# Altium footprint library SummerWorkshop.PcbLib: 12 footprints
Each footprint in its own frame and in the unit in brackets; x right, y up, seen from the top. Pads: shape width x height; smd on the part's side, far side on the other; paste and mask are expansions set on the pad; w line width, h text height; cw(c..) or ccw(c..) is an arc to the next point about the centre after c.
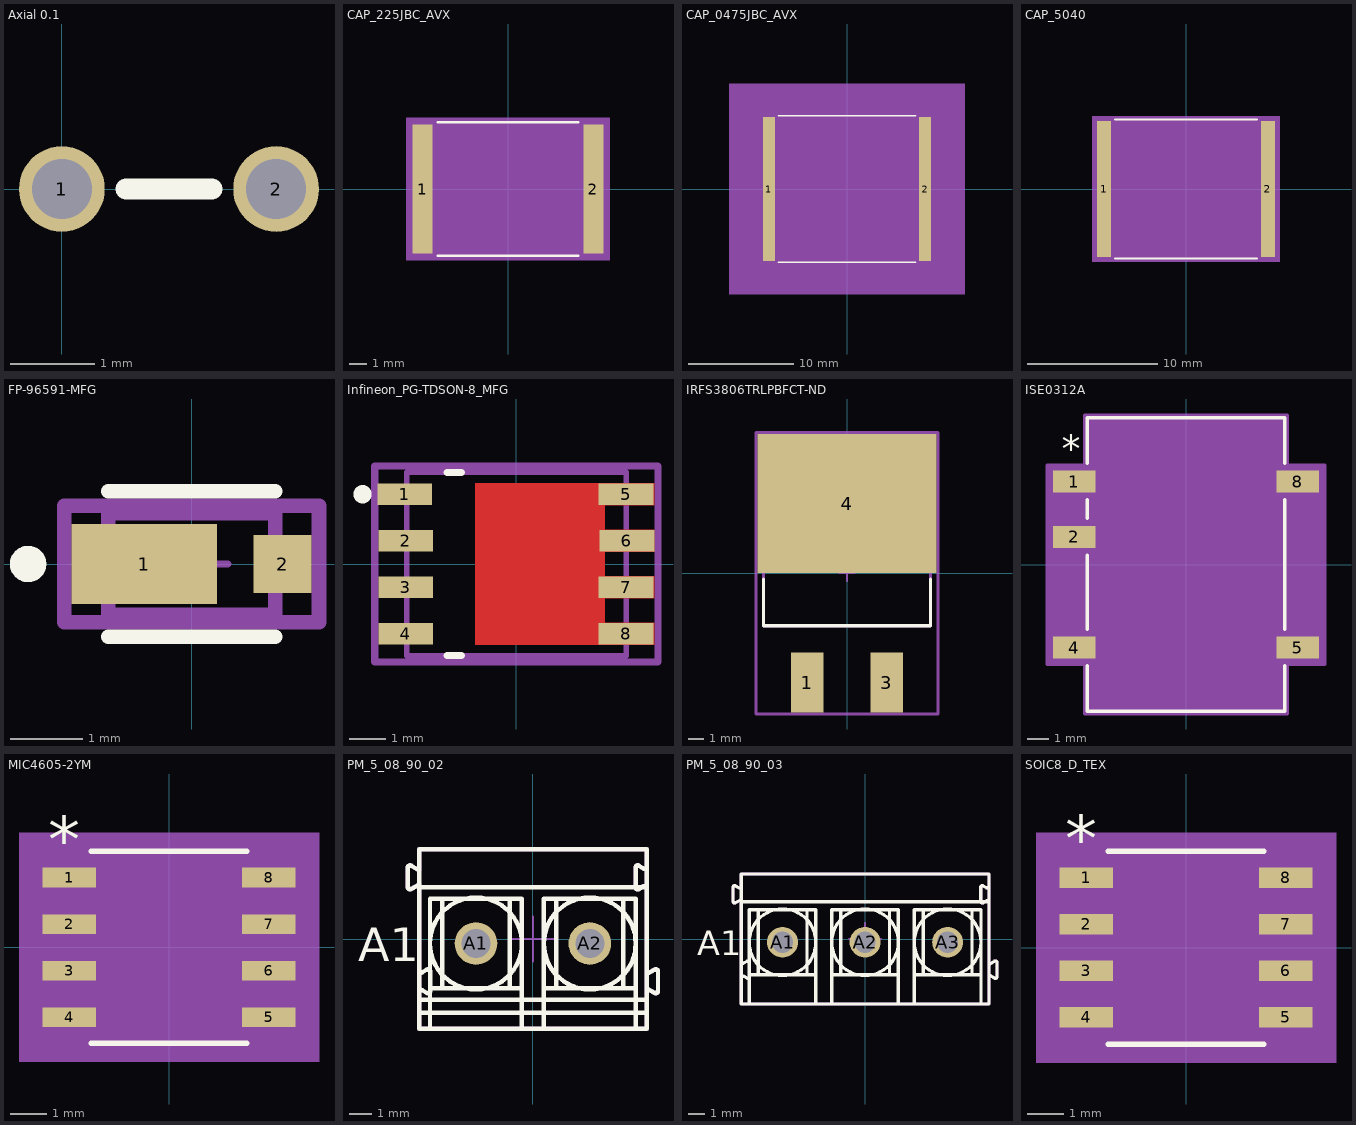
[diagram p0: the footprints below, top view; thin cyan lines are the x and y axes]

## Axial 0.1 [mil]
pads (2):
  round 40 hole 28: 1(0,0) 2(100,0)
Top Overlay:
  lines w10: 30,0 70,0

## CAP_225JBC_AVX [mil]
pads (2):
  rect 46x299 smd paste+0 mask+0: 1(-197.5,0) 2(197.5,0)
Top Overlay:
  lines w6: -162.39,-154.5 162.39,-154.5 ; -162.39,154.5 162.39,154.5
Mechanical 5:
  region: 235.5,-164.5 -235.5,-164.5 -235.5,164.5 235.5,164.5
Mechanical 13:
  lines w1: -206.5,-149.5 -206.5,149.5 ; -206.5,-149.5 206.5,-149.5 ; -206.5,-149.5 -174.5,-149.5 -174.5,149.5 -206.5,149.5 ; -206.5,-149.5 -206.5,149.5 ; -206.5,149.5 206.5,149.5 ; 206.5,-149.5 206.5,149.5 ; 206.5,-149.5 206.5,149.5 ; 206.5,-149.5 174.5,-149.5 174.5,149.5 206.5,149.5
Mechanical 15:
  region: 230.5,-159.5 -230.5,-159.5 -230.5,159.5 230.5,159.5
  lines w6: -230.5,-159.5 230.5,-159.5 230.5,159.5 -230.5,159.5 -230.5,-159.5
3D body "CAP_225JBC_AVX.step": height 227.99, standoff 0, extent -206.5,-149.49 206.5,149.49

## CAP_0475JBC_AVX [mil]
pads (2):
  rect 46x539 smd paste+0 mask+0: 1(-292,0) 2(292,0)
Top Overlay:
  lines w6: -256.89,-274.5 256.89,-274.5 ; -256.89,274.5 256.89,274.5
Mechanical 5:
  region: 440,-394.5 -440,-394.5 -440,394.5 440,394.5
Mechanical 13:
  lines w1: -301,-269.5 -301,269.5 ; -301,-269.5 301,-269.5 ; -301,-269.5 -269,-269.5 -269,269.5 -301,269.5 ; -301,-269.5 -301,269.5 ; -301,269.5 301,269.5 ; 301,-269.5 301,269.5 ; 301,-269.5 301,269.5 ; 301,-269.5 269,-269.5 269,269.5 301,269.5
Mechanical 15:
  region: 325,-279.5 -325,-279.5 -325,279.5 325,279.5
  lines w6: -325,-279.5 325,-279.5 325,279.5 -325,279.5 -325,-279.5
3D body "CAP_0475JBC_AVX.step": height 280, standoff 0, extent -300.98,-269.49 300.98,269.49

## CAP_5040 [mil]
pads (2):
  rect 42x413 smd paste+0 mask+0: 1(-249,0) 2(249,0)
Top Overlay:
  lines w6: -215.89,-211.5 215.89,-211.5 ; -215.89,211.5 215.89,211.5
Mechanical 5:
  region: 285,-221.5 -285,-221.5 -285,221.5 285,221.5
Mechanical 13:
  lines w1: -256,-206.5 -256,206.5 ; -256,-206.5 256,-206.5 ; -256,-206.5 -228,-206.5 -228,206.5 -256,206.5 ; -256,-206.5 -256,206.5 ; -256,206.5 256,206.5 ; 256,-206.5 256,206.5 ; 256,-206.5 256,206.5 ; 256,-206.5 228,-206.5 228,206.5 256,206.5
Mechanical 15:
  region: 280,-216.5 -280,-216.5 -280,216.5 280,216.5
  lines w6: -280,-216.5 280,-216.5 280,216.5 -280,216.5 -280,-216.5
3D body "WIMA_XA_WIM.step": height 247.99, standoff 0, extent -255.98,-206.5 255.98,206.5

## FP-96591-MFG [mm]
pads (2):
  rect 2x1.1 smd paste+0 mask+0: 1(-0.65,0)
  rect 0.8x0.8 smd paste+0 mask+0: 2(1.25,0)
Top Overlay:
  circle w0.25: c-2.25,0 r0.125
  lines w0.2: -1.15,-1 1.15,-1 ; -1.15,1 1.15,1
Top 3D Body:
  lines w0.2: -1.15,-0.7 -1.15,0.7 1.15,0.7 1.15,-0.7 -1.15,-0.7
Top Assembly:
  lines w0.2: -1.75,-0.8 -1.75,0.8 1.75,0.8 1.75,-0.8 -1.75,-0.8
Top Courtyard:
  lines w0.2: -1.75,-0.8 -1.75,0.8 1.75,0.8 1.75,-0.8 -1.75,-0.8
Top Component Center:
  lines w0.1: -0.5,0 0.5,0 ; 0,-0.5 0,0.5
3D body "Diode_Vishay_MSS1P3L-M3-89A_eec.STEP": height 0.25, standoff 0, extent -1.75,-0.8 1.75,0.8

## Infineon_PG-TDSON-8_MFG [mm]
pads (8):
  rect 1.5x0.6 smd paste-1000 mask+0: 1(-3.048,1.905) 2(-3.02,0.635) 3(-3.02,-0.635) 4(-3.02,-1.905) 5(2.997,1.905) 6(3.023,0.635) 7(2.997,-0.635) 8(2.997,-1.905)
Top Layer:
  region: -1.125,2.205 3.77,2.205 3.77,1.605 2.42,1.605 2.42,0.935 3.77,0.935 3.77,0.335 2.42,0.335 2.42,-0.335 3.77,-0.335 3.77,-0.935 2.42,-0.935 2.42,-1.605 3.77,-1.605 3.77,-2.205 -1.125,-2.205
Top Overlay:
  circle w0.25: c-4.2,1.905 r0.125
  lines w0.2: -1.895,-2.5 -1.5,-2.5 ; -1.895,2.5 -1.5,2.5
Top Paste:
  rectangle: 0.745,-1.6 2.245,-0.1
  rectangle: -0.955,-1.6 0.545,-0.1
  rectangle: 0.745,0.1 2.245,1.6
  rectangle: -0.955,0.1 0.545,1.6
  rectangle: 2.52,-2.155 3.72,-1.655
  rectangle: 2.52,-0.885 3.72,-0.385
  rectangle: 2.52,0.385 3.72,0.885
  rectangle: -3.72,-2.155 -2.32,-1.655
  rectangle: -3.72,-0.885 -2.32,-0.385
  rectangle: -3.72,0.385 -2.32,0.885
  rectangle: -3.72,1.655 -2.32,2.155
  rectangle: 2.52,1.655 3.72,2.155
Mechanical 10:
  lines w0.2: -3.87,-2.675 -3.87,2.675 3.87,2.675 3.87,-2.675 -3.87,-2.675
Mechanical 12:
  lines w0.15: -3,-2.5 -3,2.5 3,2.5 3,-2.5 -3,-2.5
Mechanical 15:
  lines w0.1: -0.5,0 0.5,0 ; 0,-0.5 0,0.5
  lines w0.2: -3.87,-2.675 3.87,-2.675 3.87,2.675 -3.87,2.675 -3.87,-2.675
3D body "Trans_Infineon_IRFH7440TRPBF_eec.STEP": height 0.25, standoff 0, extent -3.87,-2.675 3.87,2.675

## IRFS3806TRLPBFCT-ND [mm]
pads (3):
  rect 2.08x3.81 smd paste+0 mask+0: 1(-2.54,-6.985) 3(2.54,-6.985)
  rect 11.43x8.89 smd paste+0 mask+0: 4(0,4.445)
Top Overlay:
  lines w0.2: -5.335,-0.375 -5.335,-3.36 5.335,-3.36 5.335,-0.375
Mechanical 5:
  lines w0.2: -5.815,-8.99 -5.815,8.99 5.815,8.99 5.815,-8.99 -5.815,-8.99
  text ".Designator" at 0,-0.001 h1
Mechanical 13:
  lines w0.2: -5.335,-3.36 -5.335,6.29 5.335,6.29 5.335,-3.36 -5.335,-3.36
Mechanical 15:
  lines w0.2: -5.815,-8.99 -5.815,8.99 5.815,8.99 5.815,-8.99 -5.815,-8.99
Mechanical 16:
  lines w0.1: -0.5,0 0.5,0 ; 0,-0.5 0,0.5
3D body "Trans_Infineon_IRF2805STRLPBF_eec.STEP": height 0.25, standoff 0, extent -5.815,-8.99 5.815,8.99

## ISE0312A [mil]
pads (5):
  rect 77x40 smd paste+0 mask+0: 1(-202,150) 2(-202,50) 4(-202,-150) 5(202,-150) 8(202,150)
Top Overlay:
  lines w6: -178.5,-183.1 -178.5,-265 178.5,-265 178.5,-183.1 ; -178.5,-116.9 -178.5,16.9 ; -178.5,83.1 -178.5,116.9 ; -178.5,183.1 -178.5,265 178.5,265 178.5,183.1 ; 178.5,-116.9 178.5,116.9
  text "*" at -224.5,185 h50
Mechanical 13:
  lines w0: -12,260 ccw(c0,260) 12,260
  lines w1: -226.5,-169 -173.5,-169 -173.5,-131 -226.5,-131 -226.5,-169 ; -226.5,31 -173.5,31 -173.5,69 -226.5,69 -226.5,31 ; -226.5,131 -173.5,131 -173.5,169 -226.5,169 -226.5,131 ; -173.5,-260 -173.5,260 173.5,260 173.5,-260 -173.5,-260 ; 173.5,-169 226.5,-169 226.5,-131 173.5,-131 173.5,-169 ; 173.5,131 226.5,131 226.5,169 173.5,169 173.5,131
  text "*" at -171,207 h50
Mechanical 15:
  region: -183.5,-180 -250.5,-180 -250.5,180 -183.5,180 -183.5,270 183.5,270 183.5,180 250.5,180 250.5,-180 183.5,-180 183.5,-270 -183.5,-270
  lines w6: -250.5,-180 -183.5,-180 -183.5,-270 183.5,-270 183.5,-180 250.5,-180 250.5,180 183.5,180 183.5,270 -183.5,270 -183.5,180 -250.5,180 -250.5,-180
3D body "ISE0512A-H_XPP.step": height 305.12, standoff 0, extent -226.5,-260 226.5,260

## MIC4605-2YM [mil]
pads (8):
  rect 57.5x21 smd paste+0 mask+0: 1(-107.25,75) 2(-107.25,25) 3(-107.25,-25) 4(-107.25,-75) 5(107.25,-75) 6(107.25,-25) 7(107.25,25) 8(107.25,75)
Top Overlay:
  lines w6: -83.5,-103 83.5,-103 ; -83.5,103 83.5,103
  text "*" at -129.75,91 h50
Mechanical 5:
  region: 161,-123 -161,-123 -161,123 161,123
Mechanical 13:
  lines w0: -12,98 ccw(c0,98) 12,98
  lines w1: -122,-84.5 -78.5,-84.5 -78.5,-65.5 -122,-65.5 -122,-84.5 ; -122,-34.5 -78.5,-34.5 -78.5,-15.5 -122,-15.5 -122,-34.5 ; -122,15.5 -78.5,15.5 -78.5,34.5 -122,34.5 -122,15.5 ; -122,65.5 -78.5,65.5 -78.5,84.5 -122,84.5 -122,65.5 ; -78.5,-98 -78.5,98 78.5,98 78.5,-98 -78.5,-98 ; 78.5,-84.5 122,-84.5 122,-65.5 78.5,-65.5 78.5,-84.5 ; 78.5,-34.5 122,-34.5 122,-15.5 78.5,-15.5 78.5,-34.5 ; 78.5,15.5 122,15.5 122,34.5 78.5,34.5 78.5,15.5 ; 78.5,65.5 122,65.5 122,84.5 78.5,84.5 78.5,65.5
  text "*" at -76,45 h50
Mechanical 15:
  region: -88.5,-95.5 -146,-95.5 -146,95.5 -88.5,95.5 -88.5,108 88.5,108 88.5,95.5 146,95.5 146,-95.5 88.5,-95.5 88.5,-108 -88.5,-108
  lines w6: -146,-95.5 -88.5,-95.5 -88.5,-108 88.5,-108 88.5,-95.5 146,-95.5 146,95.5 88.5,95.5 88.5,108 -88.5,108 -88.5,95.5 -146,95.5 -146,-95.5
3D body "SOIC-8_M_MCH.step": height 66.1, standoff 0, extent -122.01,-97.99 122.01,97.99

## PM_5_08_90_02 [mm] "PM 5.08/02/90 3.5"
height 10
pads (2):
  round 1.9 hole 1.3: A1(-2.54,-0.2) A2(2.54,-0.2)
Top Overlay:
  circle w0.2: c2.54,-0.2 r2.05
  circle w0.2: c-2.54,-0.2 r2.05
  lines w0.2: -5.08,-3.3 5.08,-3.3 ; -5.08,-2.7 5.08,-2.7 ; -5.08,-2.373 cw(c-4.98,-2.373) -4.93,-2.287 -4.73,-2.402 ccw(c-4.68,-2.315) -4.58,-2.315 -4.58,-1.455 ccw(c-4.68,-1.455) -4.73,-1.368 -4.93,-1.483 cw(c-4.98,-1.397) -5.08,-1.397 ; -5.08,2.3 5.08,2.3 ; -4.59,-4 -4.59,1.8 -0.49,1.8 -0.49,-4 ; -4.59,-2.2 -0.49,-2.2 ; -4.04,-2.2 -4.04,1.8 ; -1.04,-2.2 -1.04,1.8 ; 0.49,-4 0.49,1.8 4.59,1.8 4.59,-4 ; 0.49,-2.2 4.59,-2.2 ; 1.04,-2.2 1.04,1.8 ; 4.04,-2.2 4.04,1.8 ; 5.08,-2.2 5.43,-2.402 ccw(c5.48,-2.315) 5.58,-2.315 5.58,-1.455 ccw(c5.48,-1.455) 5.43,-1.368 5.08,-1.57 ; 5.08,2.262 ccw(c4.98,2.262) 4.93,2.348 4.73,2.233 cw(c4.68,2.32) 4.58,2.32 4.58,3.18 cw(c4.68,3.18) 4.73,3.267 4.93,3.152 ccw(c4.98,3.238) 5.08,3.238 ; -5.08,-4 -5.08,4 ; -5.08,-4 5.08,-4 5.08,4 -5.08,4 ; -5.08,-4 -5.08,2.435 -5.43,2.233 cw(c-5.48,2.32) -5.58,2.32 -5.58,3.18 cw(c-5.48,3.18) -5.43,3.267 -5.08,3.065 -5.08,4
  text "A1" at -7.802,-0.995 h1.5
Mechanical 15:
  lines w0.1: -1,0.002 1,0.002 ; 0,-0.998 0,1.002
  lines w0.2: 5.08,-2.2 5.43,-2.402 ccw(c5.48,-2.315) 5.58,-2.315 5.58,-1.455 ccw(c5.48,-1.455) 5.43,-1.368 5.08,-1.57 ; 5.08,2.262 ccw(c4.98,2.262) 4.93,2.348 4.73,2.233 cw(c4.68,2.32) 4.58,2.32 4.58,3.18 cw(c4.68,3.18) 4.73,3.267 4.93,3.152 ccw(c4.98,3.238) 5.08,3.238 ; -5.58,2.32 ccw(c-5.48,2.32) -5.43,2.233 -5.08,2.435 -5.08,-4 5.08,-4 5.08,4 -5.08,4 -5.08,3.065 -5.43,3.267 ccw(c-5.48,3.18) -5.58,3.18 -5.58,2.32
3D body "PM_5.08_02_90_3.5SN_OR_BX_1760490000.stp": height 10.01, standoff -3.49, extent -5.58,-4 5.58,4

## PM_5_08_90_03 [mm] "PM 5.08/03/90 3.5"
height 10
pads (3):
  round 1.9 hole 1.3: A1(-5.08,-0.2) A2(0,-0.2) A3(5.08,-0.2)
Top Overlay:
  circle w0.2: c5.08,-0.2 r2.05
  circle w0.2: c0,-0.2 r2.05
  circle w0.2: c-5.08,-0.2 r2.05
  lines w0.2: -7.62,-2.373 cw(c-7.52,-2.373) -7.47,-2.287 -7.27,-2.402 ccw(c-7.22,-2.315) -7.12,-2.315 -7.12,-1.455 ccw(c-7.22,-1.455) -7.27,-1.368 -7.47,-1.483 cw(c-7.52,-1.397) -7.62,-1.397 ; -7.62,2.3 7.62,2.3 ; -7.13,-4 -7.13,1.8 -3.03,1.8 -3.03,-4 ; -7.13,-2.2 -3.03,-2.2 ; -6.58,-2.2 -6.58,1.8 ; -3.58,-2.2 -3.58,1.8 ; -2.05,-4 -2.05,1.8 2.05,1.8 2.05,-4 ; -2.05,-2.2 2.05,-2.2 ; -1.5,-2.2 -1.5,1.8 ; 1.5,-2.2 1.5,1.8 ; 3.03,-4 3.03,1.8 7.13,1.8 7.13,-4 ; 3.03,-2.2 7.13,-2.2 ; 3.58,-2.2 3.58,1.8 ; 6.58,-2.2 6.58,1.8 ; 7.62,-2.2 7.97,-2.402 ccw(c8.02,-2.315) 8.12,-2.315 8.12,-1.455 ccw(c8.02,-1.455) 7.97,-1.368 7.62,-1.57 ; 7.62,2.262 ccw(c7.52,2.262) 7.47,2.348 7.27,2.233 cw(c7.22,2.32) 7.12,2.32 7.12,3.18 cw(c7.22,3.18) 7.27,3.267 7.47,3.152 ccw(c7.52,3.238) 7.62,3.238 ; -7.62,-4 -7.62,4 ; -7.62,-4 7.62,-4 7.62,4 -7.62,4 ; -7.62,-4 -7.62,2.435 -7.97,2.233 cw(c-8.02,2.32) -8.12,2.32 -8.12,3.18 cw(c-8.02,3.18) -7.97,3.267 -7.62,3.065 -7.62,4
  text "A1" at -10.342,-0.995 h1.5
Mechanical 15:
  lines w0.1: -1,0 1,0 ; 0,-1 0,1
  lines w0.2: 7.62,-2.2 7.97,-2.402 ccw(c8.02,-2.315) 8.12,-2.315 8.12,-1.455 ccw(c8.02,-1.455) 7.97,-1.368 7.62,-1.57 ; 7.62,2.262 ccw(c7.52,2.262) 7.47,2.348 7.27,2.233 cw(c7.22,2.32) 7.12,2.32 7.12,3.18 cw(c7.22,3.18) 7.27,3.267 7.47,3.152 ccw(c7.52,3.238) 7.62,3.238 ; -8.12,2.32 ccw(c-8.02,2.32) -7.97,2.233 -7.62,2.435 -7.62,-4 7.62,-4 7.62,4 -7.62,4 -7.62,3.065 -7.97,3.267 ccw(c-8.02,3.18) -8.12,3.18 -8.12,2.32
3D body "PM_5.08_03_90_3.5SN_OR_BX_1760500000.stp": height 10.01, standoff -3.49, extent -8.12,-4 8.12,4

## SOIC8_D_TEX [mil]
pads (8):
  rect 57.5x22 smd paste+0 mask+0: 1(-107.25,75) 2(-107.25,25) 3(-107.25,-25) 4(-107.25,-75) 5(107.25,-75) 6(107.25,-25) 7(107.25,25) 8(107.25,75)
Top Overlay:
  lines w6: -83.5,-103.5 83.5,-103.5 ; -83.5,103.5 83.5,103.5
  text "*" at -129.75,92 h50
Mechanical 5:
  region: 161,-123.5 -161,-123.5 -161,123.5 161,123.5
Mechanical 13:
  lines w0: -12,98.5 ccw(c0,98.5) 12,98.5
  lines w1: -122,-85 -78.5,-85 -78.5,-65 -122,-65 -122,-85 ; -122,-35 -78.5,-35 -78.5,-15 -122,-15 -122,-35 ; -122,15 -78.5,15 -78.5,35 -122,35 -122,15 ; -122,65 -78.5,65 -78.5,85 -122,85 -122,65 ; -78.5,-98.5 -78.5,98.5 78.5,98.5 78.5,-98.5 -78.5,-98.5 ; 78.5,-85 122,-85 122,-65 78.5,-65 78.5,-85 ; 78.5,-35 122,-35 122,-15 78.5,-15 78.5,-35 ; 78.5,15 122,15 122,35 78.5,35 78.5,15 ; 78.5,65 122,65 122,85 78.5,85 78.5,65
  text "*" at -76,45.5 h50
Mechanical 15:
  region: -88.5,-96 -146,-96 -146,96 -88.5,96 -88.5,108.5 88.5,108.5 88.5,96 146,96 146,-96 88.5,-96 88.5,-108.5 -88.5,-108.5
  lines w6: -146,-96 -88.5,-96 -88.5,-108.5 88.5,-108.5 88.5,-96 146,-96 146,96 88.5,96 88.5,108.5 -88.5,108.5 -88.5,96 -146,96 -146,-96
3D body "SOIC8_D_TEX.step": height 69.09, standoff 0, extent -122.01,-98.5 122.01,98.5